# EAGLE library part LM3916 (library Wskazniki wysterowania)
Dot/Bar Display Driver n Fast responding electronic VU meter n Drivers LEDs, LCDs, or vacuum fluorescents n Bar or dot display mode externally selectable by user n Expandable to displays of 70 dB n Internal voltage reference from 1.2V to 12V n Operates with single supply of 3V to 25V n Inputs operate down to ground n Output current programmable from 1 mA to 30 mA n Input withstands ±35V without damage or false outputs n Outputs are current regulated, open collectors n Directly drives TTL or CMOS n The internal 10-step divider is floating and can be referenced to a wide range of voltages
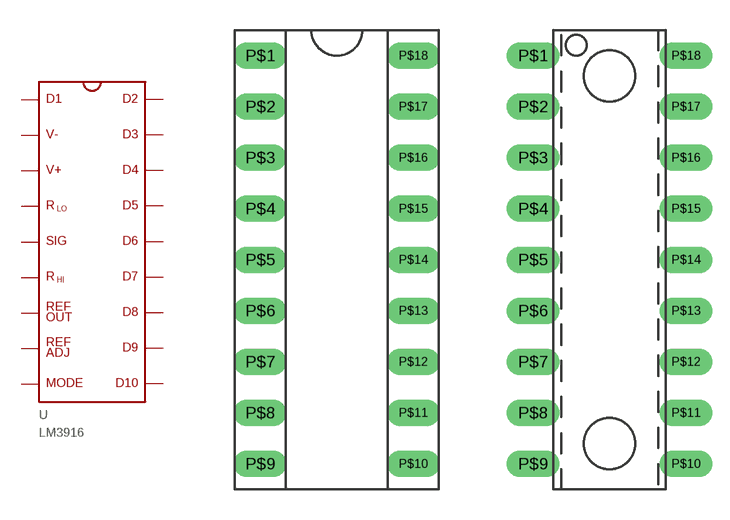
[diagram p4: symbol with the pads of DIL-18_2,54X7,62; footprints DIL-18_2,54X7,62, N18A]

Designator prefix -

## LM3916N-1  [DIL-18_2,54X7,62]
P$1  D1
P$2  V-
P$3  V+
P$4  RLO
P$5  SIG
P$6  RHI
P$7  REF_OUT
P$8  REF_ADJ
P$9  MODE
P$10  D10
P$11  D9
P$12  D8
P$13  D7
P$14  D6
P$15  D5
P$16  D4
P$17  D3
P$18  D2

## LM3916N  [N18A]
Pads as for DIL-18_2,54X7,62

## Footprint DIL-18_2,54X7,62 (pad centres in mm)
drill 0.813 long: P$1 -3.81,10.16; P$2 -3.81,7.62; P$3 -3.81,5.08; P$4 -3.81,2.54; P$5 -3.81,0; P$6 -3.81,-2.54; P$7 -3.81,-5.08; P$8 -3.81,-7.62; P$9 -3.81,-10.16; P$10 3.81,-10.16; P$11 3.81,-7.62; P$12 3.81,-5.08; P$13 3.81,-2.54; P$14 3.81,0; P$15 3.81,2.54; P$16 3.81,5.08; P$17 3.81,7.62; P$18 3.81,10.16

## Footprint N18A (pad centres in mm)
drill 0.813 long: P$1 -3.81,10.16; P$2 -3.81,7.62; P$3 -3.81,5.08; P$4 -3.81,2.54; P$5 -3.81,0; P$6 -3.81,-2.54; P$7 -3.81,-5.08; P$8 -3.81,-7.62; P$9 -3.81,-10.16; P$10 3.81,-10.16; P$11 3.81,-7.62; P$12 3.81,-5.08; P$13 3.81,-2.54; P$14 3.81,0; P$15 3.81,2.54; P$16 3.81,5.08; P$17 3.81,7.62; P$18 3.81,10.16